# Altium schematic symbol library SCH - POWER - SWITCHMODE - TI TPS43331-Q1_DAP_38.SchLib: 1 symbol
Pins are listed as number, name and electrical type; pins without a type are passive.

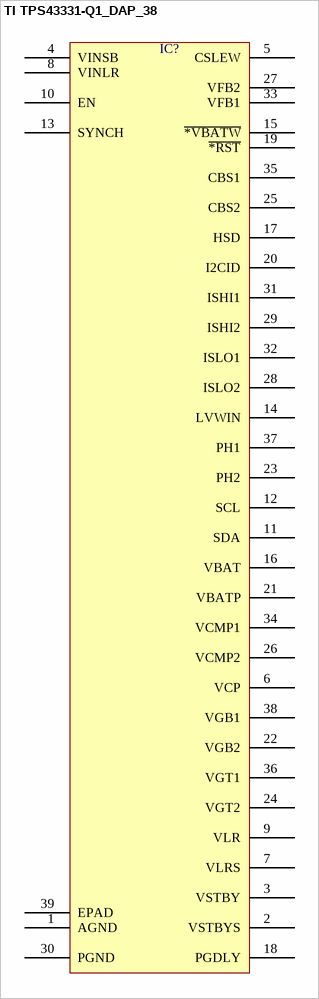
[diagram p0: symbol TI TPS43331-Q1_DAP_38]

## TI TPS43331-Q1_DAP_38
designator IC?  (value not drawn)
pins: 1 AGND, 2 VSTBYS, 3 VSTBY, 4 VINSB, 5 CSLEW, 6 VCP, 7 VLRS, 8 VINLR, 9 VLR, 10 EN, 11 SDA, 12 SCL, 13 SYNCH, 14 LVWIN, 15 ~{*VBATW}, 16 VBAT, 17 HSD, 18 PGDLY, 19 ~{*RST}, 20 I2CID, 21 VBATP, 22 VGB2, 23 PH2, 24 VGT2, 25 CBS2, 26 VCMP2, 27 VFB2, 28 ISLO2, 29 ISHI2, 30 PGND, 31 ISHI1, 32 ISLO1, 33 VFB1, 34 VCMP1, 35 CBS1, 36 VGT1, 37 PH1, 38 VGB1, 39 EPAD